# EAGLE library part 1X06-JST (library JST CONNECTOR)
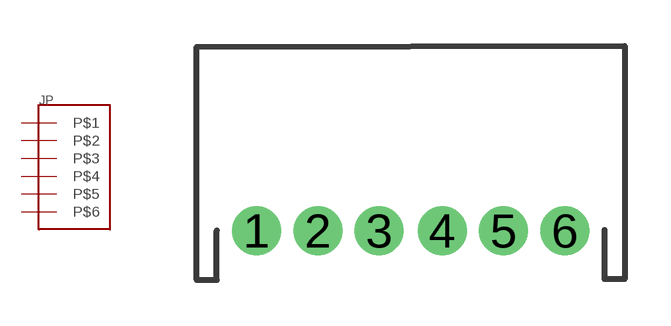
[diagram p0: symbol with the pads of 1X06-JST; footprint 1X06-JST]

Designator prefix JP

## 1X06-JST  [1X06-JST]
1  P$1
2  P$2
3  P$3
4  P$4
5  P$5
6  P$6

## Footprint 1X06-JST (pad centres in mm)
drill 0.7 pad 1.6: 1 -4.54,-2.54; 2 -2.54,-2.54; 3 -0.54,-2.54; 4 1.52,-2.54; 5 3.52,-2.54; 6 5.52,-2.54